# EAGLE library part 2X5_PTH (library headers-1mm)
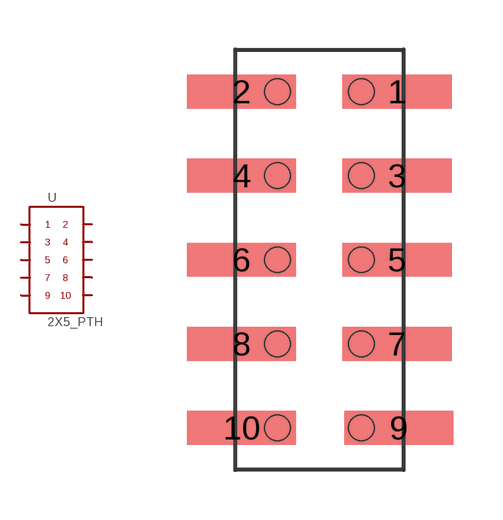
[diagram p1: symbol with the pads of 2X5_PTH; footprint 2X5_PTH]

Designator prefix -

## 2X5_PTH  [2X5_PTH]
1  1
2  2
3  3
4  4
5  5
6  6
7  7
8  8
9  9
10  10

## Footprint 2X5_PTH (pad centres in mm)
smd 3.3 x 1.02: 1 2.35,0; 2 -2.35,0; 3 2.35,-2.54; 4 -2.35,-2.54; 5 2.35,-5.08; 6 -2.35,-5.08; 7 2.35,-7.62; 8 -2.35,-7.62; 9 2.4,-10.16; 10 -2.35,-10.16
hole 0.762 at 1.27,0
hole 0.762 at -1.27,0
hole 0.762 at -1.27,-2.54
hole 0.762 at 1.27,-2.54
hole 0.762 at 1.27,-5.08
hole 0.762 at -1.27,-5.08
hole 0.762 at -1.27,-7.62
hole 0.762 at 1.27,-7.62
hole 0.762 at 1.27,-10.16
hole 0.762 at -1.27,-10.16